# EAGLE library part 614108646521 (library Wurth-USB)
WR-COM Type A Horizontal THR Dual Mid-Mount KIND PROPERTIES Durability 5 000 Mating cycles Gender Receptacle Type Stacked Horizontal MATERIALPROPERTIES Insulator Material PA9T Insulator Flammability Rating UL94 V-0 Insulator Color White Contact Material Phosphor Copper Contact Plating 30µ"Gold over Nickel Contact Type Stamped Shielding Material Steel Shielding Plating Matte Tin GENERAL INFORMATION Operating Temperature -40 up to +85 °C ELECTRICAL PROPERTIES Working Voltage 30 V (AC) Withstanding Voltage 100 V (AC) Contact Resistance 30 mΩ <https://katalog.we-online.com/media/images/v2/o161611v209%20Family_ConUSB2_614108646521.jpg> Details see: https://katalog.we-online.com/en/em/COM_2_0_THR_TYPE_A_HORIZONTAL_DUAL_MID_MOUNT Created by Ella Wu 2019-11-05 2019(C) Wurth Elektronik
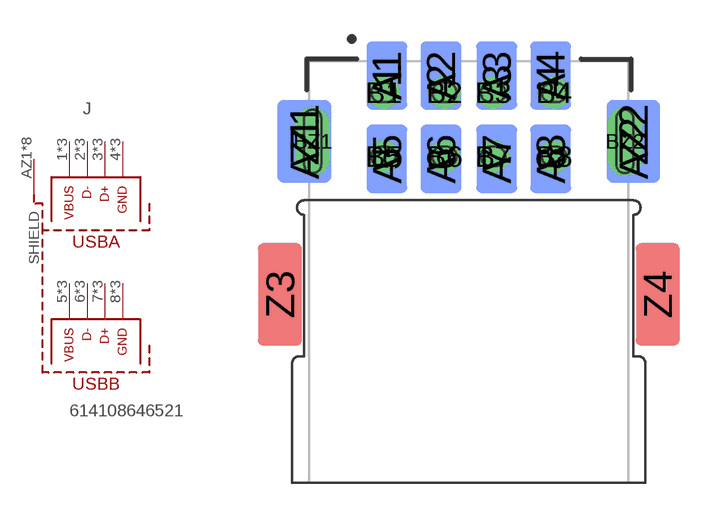
[diagram p193: symbol with the pads of 614108646521; footprint 614108646521]

Designator prefix J

## 614108646521  [614108646521]
1  A_VBUS
2  A_D-
3  A_D+
4  A_GND
5  B_VBUS
6  B_D-
7  B_D+
8  B_GND
A1  A_VBUS
A2  A_D-
A3  A_D+
A4  A_GND
A5  B_VBUS
A6  B_D-
A7  B_D+
A8  B_GND
AZ1  SHIELD
AZ2  SHIELD
B1  A_VBUS
B2  A_D-
B3  A_D+
B4  A_GND
B5  B_VBUS
B6  B_D-
B7  B_D+
B8  B_GND
BZ1  SHIELD
BZ2  SHIELD
Z1  SHIELD
Z2  SHIELD
Z3  SHIELD
Z4  SHIELD

## Footprint 614108646521 (pad centres in mm)
smd 1.68 x 2.8: 1 -3.36,2.7; 2 -1.14,2.7; 3 1.14,2.7; 4 3.36,2.7; 5 -3.36,-0.72; 6 -1.14,-0.72; 7 1.14,-0.72; 8 3.36,-0.72
smd 1.68 x 2.8 bottom: A1 -3.36,2.7; A2 -1.14,2.7; A3 1.14,2.7; A4 3.36,2.7; A5 -3.36,-0.72; A6 -1.14,-0.72; A7 1.14,-0.72; A8 3.36,-0.72
smd 2.2 x 3.4 bottom: AZ1 -6.75,0; AZ2 6.75,0
drill 0.8: B1 -3.5,2; B2 -1,2; B3 1,2; B4 3.5,2; B5 -3.5,-0.62; B6 -1,-0.62; B7 1,-0.62; B8 3.5,-0.62
drill 0.7 pad 1.422 long: BZ1 -6.4,0; BZ2 6.4,0
smd 2.2 x 3.4: Z1 -6.75,0; Z2 6.75,0
smd 1.8 x 4.2: Z3 -7.75,-6.28; Z4 7.75,-6.28